# Altium schematic symbol library Conn_Molex_0874380243_eec.SchLib: 1 symbol
Pins are listed as number, name and electrical type; pins without a type are passive.

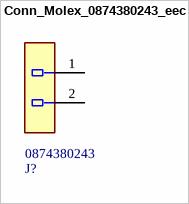
[diagram p0: symbol Conn_Molex_0874380243_eec]

## Conn_Molex_0874380243_eec
designator J?  Part Number: 0874380243
CONN HEADER 2POS 1.5MM R/A SMD; Manufacturer: Molex; helpURL: https://upverter.com/upn/revision/9247828ede5b33c1/; ComponentLink2Description: Datasheet; Temperature: -55°C to +105°C; Package: HDR02; Supplier 2: Mouser; Price: 0.47257560661; Supplier 1: Digi-Key; ComponentLink1URL: https://upverter.com/upn/revision/9247828ede5b33c1/; Supplier Part Number 2: 538-87438-0243; Supplier Part Number 1: WM7646CT-ND; ComponentLink1Description: Upverter; ComponentLink2URL: http://www.molex.com/pdm_docs/sd/874380243_sd.pdf; RoHS: TRUE; Mouser Part Number: 538-87438-0243; Temperature Range High: +105°C; Digikey Description: CONN HEADER 2POS 1.5MM R/A SMD; Digikey Part Number: WM7646CT-ND; Temperature Range Low: -55°C; Lead Free: yes
footprint Molex_0874380243_0
pins: 1, 2